# Altium integrated library Altium Database Library V2.IntLib: 721 symbols (part 10 of 35)

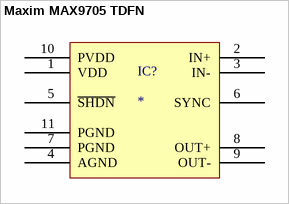
[diagram p207: symbol Maxim MAX9705 TDFN]

## Maxim MAX9705 TDFN
designator IC?
pins: 1 VDD, 2 IN+, 3 IN-, 4 AGND, 5 ~{SHDN}, 6 SYNC, 7 PGND, 8 OUT+, 9 OUT-, 10 PVDD, 11 PGND


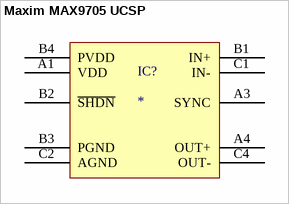
[diagram p208: symbol Maxim MAX9705 UCSP]

## Maxim MAX9705 UCSP
designator IC?
pins: A1 VDD, A3 SYNC, A4 OUT+, B1 IN+, B2 ~{SHDN}, B3 PGND, B4 PVDD, C1 IN-, C2 AGND, C4 OUT-


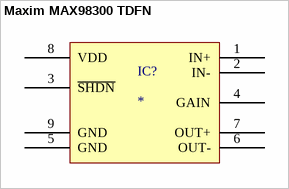
[diagram p209: symbol Maxim MAX98300 TDFN]

## Maxim MAX98300 TDFN
designator IC?
pins: 1 IN+, 2 IN-, 3 ~{SHDN}, 4 GAIN, 5 GND, 6 OUT-, 7 OUT+, 8 VDD, 9 GND


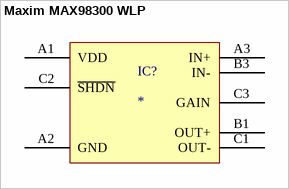
[diagram p210: symbol Maxim MAX98300 WLP]

## Maxim MAX98300 WLP
designator IC?
pins: A1 VDD, A2 GND, A3 IN+, B1 OUT+, B3 IN-, C1 OUT-, C2 ~{SHDN}, C3 GAIN


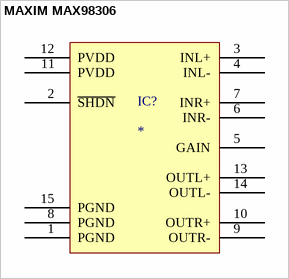
[diagram p211: symbol MAXIM MAX98306]

## MAXIM MAX98306
designator IC?
pins: 1 PGND, 2 ~{SHDN}, 3 INL+, 4 INL-, 5 GAIN, 6 INR-, 7 INR+, 8 PGND, 9 OUTR-, 10 OUTR+, 11 PVDD, 12 PVDD, 13 OUTL+, 14 OUTL-, 15 PGND


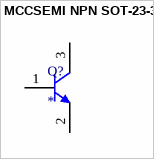
[diagram p212: symbol MCCSEMI NPN SOT-23-3]

## MCCSEMI NPN SOT-23-3
designator Q?
pins: 1 B, 2 E, 3 C


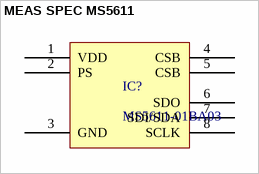
[diagram p213: symbol MEAS SPEC MS5611]

## MEAS SPEC MS5611
designator IC?, comment MS5611-01BA03
pins: 1 VDD "Positive supply voltage", 2 PS "Protocol select - PS high I2C, PS low SPI", 3 GND "Ground", 4 CSB "Chip select", 5 CSB "Chip select", 6 SDO "Serial data output", 7 SDI/SDA "Serial Data input/I2C data IO", 8 SCLK "Serial Data Clock"


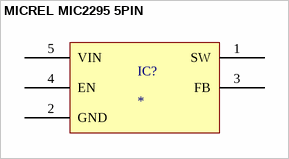
[diagram p214: symbol MICREL MIC2295 5PIN]

## MICREL MIC2295 5PIN
designator IC?
pins: 1 SW, 2 GND, 3 FB, 4 EN, 5 VIN


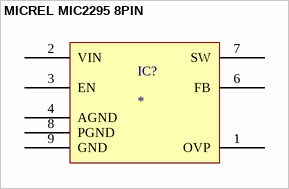
[diagram p215: symbol MICREL MIC2295 8PIN]

## MICREL MIC2295 8PIN
designator IC?
pins: 1 OVP, 2 VIN, 3 EN, 4 AGND, 6 FB, 7 SW, 8 PGND, 9 GND


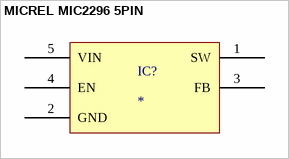
[diagram p216: symbol MICREL MIC2296 5PIN]

## MICREL MIC2296 5PIN
designator IC?
pins: 1 SW, 2 GND, 3 FB, 4 EN, 5 VIN


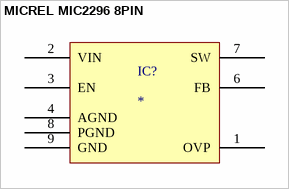
[diagram p217: symbol MICREL MIC2296 8PIN]

## MICREL MIC2296 8PIN
designator IC?
pins: 1 OVP, 2 VIN, 3 EN, 4 AGND, 6 FB, 7 SW, 8 PGND, 9 GND


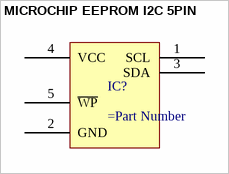
[diagram p218: symbol MICROCHIP EEPROM I2C 5PIN]

## MICROCHIP EEPROM I2C 5PIN
designator IC?
pins: 1 SCL, 2 GND, 3 SDA, 4 VCC, 5 ~{WP}


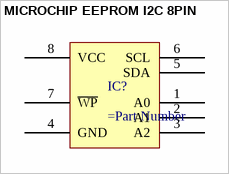
[diagram p219: symbol MICROCHIP EEPROM I2C 8PIN]

## MICROCHIP EEPROM I2C 8PIN
designator IC?
pins: 1 A0, 2 A1, 3 A2, 4 GND, 5 SDA, 6 SCL, 7 ~{WP}, 8 VCC


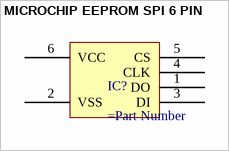
[diagram p220: symbol MICROCHIP EEPROM SPI 6 PIN]

## MICROCHIP EEPROM SPI 6 PIN
designator IC?
pins: 1 DO, 2 VSS, 3 DI, 4 CLK, 5 CS, 6 VCC


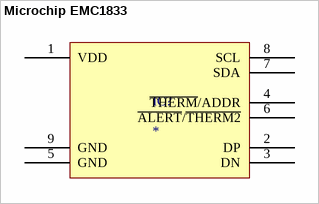
[diagram p221: symbol Microchip EMC1833]

## Microchip EMC1833
designator IC?
pins: 1 VDD, 2 DP, 3 DN, 4 ~{THERM}/ADDR, 5 GND, 6 ~{ALERT}/~{THERM2}, 7 SDA, 8 SCL, 9 GND "Exposed Thermal Pad"


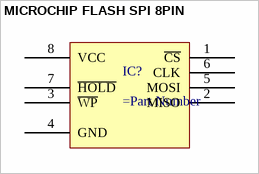
[diagram p222: symbol MICROCHIP FLASH SPI 8PIN]

## MICROCHIP FLASH SPI 8PIN
designator IC?
pins: 1 ~{CS}, 2 MISO, 3 ~{WP}, 4 GND, 5 MOSI, 6 CLK, 7 ~{HOLD}, 8 VCC


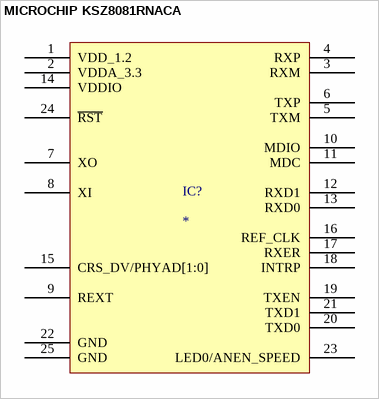
[diagram p223: symbol MICROCHIP KSZ8081RNACA]

## MICROCHIP KSZ8081RNACA
designator IC?
pins: 1 VDD_1.2, 2 VDDA_3.3, 3 RXM, 4 RXP, 5 TXM, 6 TXP, 7 XO, 8 XI, 9 REXT, 10 MDIO, 11 MDC, 12 RXD1, 13 RXD0, 14 VDDIO, 15 CRS_DV/PHYAD[1:0], 16 REF_CLK, 17 RXER, 18 INTRP, 19 TXEN, 20 TXD0, 21 TXD1, 22 GND, 23 LED0/ANEN_SPEED, 24 ~{RST}, 25 GND


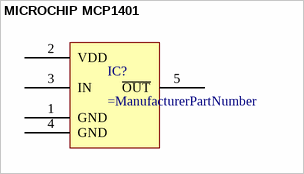
[diagram p224: symbol MICROCHIP MCP1401]

## MICROCHIP MCP1401
designator IC?
pins: 1 GND, 2 VDD, 3 IN, 4 GND, 5 ~{OUT}


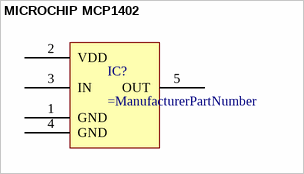
[diagram p225: symbol MICROCHIP MCP1402]

## MICROCHIP MCP1402
designator IC?
pins: 1 GND, 2 VDD, 3 IN, 4 GND, 5 OUT


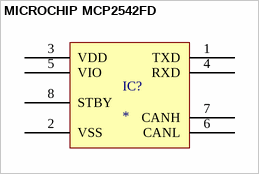
[diagram p226: symbol MICROCHIP MCP2542FD]

## MICROCHIP MCP2542FD
designator IC?
pins: 1 TXD, 2 VSS, 3 VDD, 4 RXD, 5 VIO, 6 CANL, 7 CANH, 8 STBY


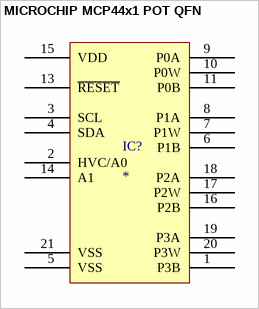
[diagram p227: symbol MICROCHIP MCP44x1 POT QFN]

## MICROCHIP MCP44x1 POT QFN
designator IC?
pins: 1 P3B, 2 HVC/A0, 3 SCL, 4 SDA, 5 VSS, 6 P1B, 7 P1W, 8 P1A, 9 P0A, 10 P0W, 11 P0B, 13 ~{RESET}, 14 A1, 15 VDD, 16 P2B, 17 P2W, 18 P2A, 19 P3A, 20 P3W, 21 VSS


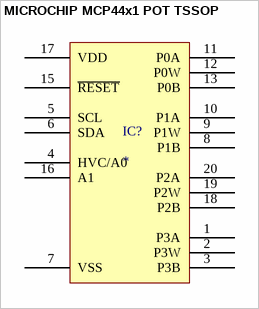
[diagram p228: symbol MICROCHIP MCP44x1 POT TSSOP]

## MICROCHIP MCP44x1 POT TSSOP
designator IC?
pins: 1 P3A, 2 P3W, 3 P3B, 4 HVC/A0, 5 SCL, 6 SDA, 7 VSS, 8 P1B, 9 P1W, 10 P1A, 11 P0A, 12 P0W, 13 P0B, 15 ~{RESET}, 16 A1, 17 VDD, 18 P2B, 19 P2W, 20 P2A


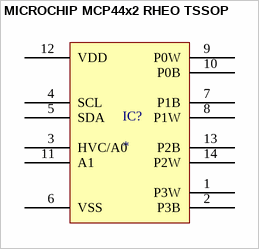
[diagram p229: symbol MICROCHIP MCP44x2 RHEO TSSOP]

## MICROCHIP MCP44x2 RHEO TSSOP
designator IC?
pins: 1 P3W, 2 P3B, 3 HVC/A0, 4 SCL, 5 SDA, 6 VSS, 7 P1B, 8 P1W, 9 P0W, 10 P0B, 11 A1, 12 VDD, 13 P2B, 14 P2W
